# Altium footprint library PcbLib1.PcbLib: 13 footprints
Each footprint in its own frame and in the unit in brackets; x right, y up, seen from the top. Pads: shape width x height; smd on the part's side, far side on the other; paste and mask are expansions set on the pad; w line width, h text height; cw(c..) or ccw(c..) is an arc to the next point about the centre after c.
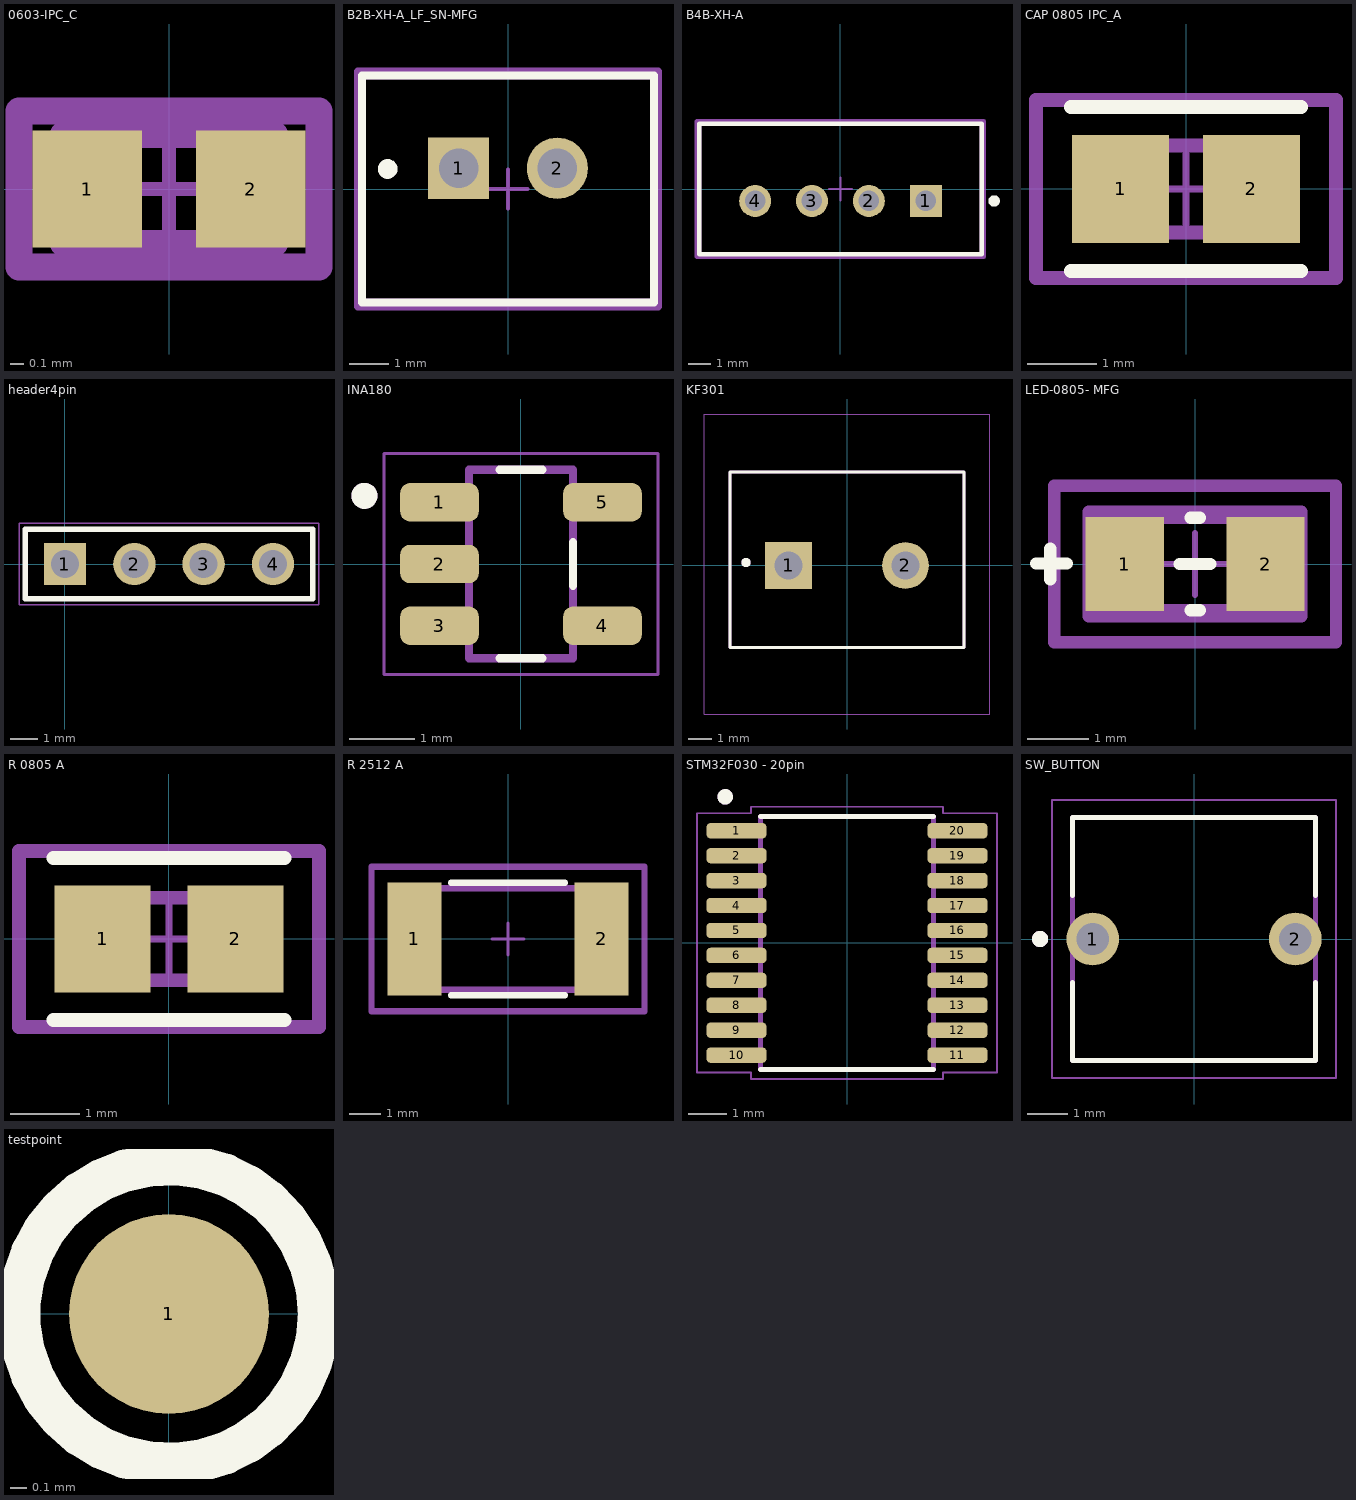
[diagram p0: the footprints below, top view; thin cyan lines are the x and y axes]

## 0603-IPC_C [mm]
pads (2):
  rect 0.806x0.858 smd paste+0 mask+0: 1(-0.601,0) 2(0.601,0)
Top Assembly:
  lines w0.2: -1.104,-0.575 1.104,-0.575 1.104,0.575 -1.104,0.575 -1.104,-0.575
  text ".Designator" at 0,0.188 h1
Top 3D Body:
  lines w0.2: -0.775,-0.4 0.775,-0.4 0.775,0.4 -0.775,0.4 -0.775,-0.4
Top Courtyard:
  lines w0.2: -1.104,-0.575 1.104,-0.575 1.104,0.575 -1.104,0.575 -1.104,-0.575
Top Component Center:
  lines w0.1: -0.5,0 0.5,0 ; 0,-0.5 0,0.5

## B2B-XH-A_LF_SN-MFG [mm]
pads (2):
  rect 1.55x1.55 hole 1 paste-2539.97: 1(-1.25,0.525)
  round 1.55 hole 1 paste-2539.97: 2(1.25,0.525)
Top Overlay:
  circle w0.25: c-3.048,0.508 r0.125
  lines w0.2: -3.7,-2.875 3.7,-2.875 3.7,2.875 -3.7,2.875 -3.7,-2.875
Top Assembly:
  lines w0.2: -3.8,-2.975 3.8,-2.975 3.8,2.975 -3.8,2.975 -3.8,-2.975
  text ".Designator" at 0,0.188 h1
Top 3D Body:
  lines w0.2: -3.7,-2.875 3.7,-2.875 3.7,2.875 -3.7,2.875 -3.7,-2.875
Top Courtyard:
  lines w0.2: -3.8,-2.975 3.8,-2.975 3.8,2.975 -3.8,2.975 -3.8,-2.975
Top Component Center:
  lines w0.1: -0.5,0 0.5,0 ; 0,-0.5 0,0.5
3D body "Conn_JST_B2B-XH-A_LF_SN_eec.STEP": height 0.25, standoff 0, extent -3.8,-2.975 3.8,2.975

## B4B-XH-A [mm]
pads (4):
  rect 1.4x1.4 hole 0.9 paste-2539.97 mask+0: 1(3.75,-0.525)
  round 1.4 hole 0.9 paste-2539.97 mask+0: 2(1.25,-0.525) 3(-1.25,-0.525) 4(-3.75,-0.525)
Top Overlay:
  circle w0.25: c6.75,-0.525 r0.125
  lines w0.2: -6.2,-2.875 6.2,-2.875 6.2,2.875 -6.2,2.875 -6.2,-2.875
Top Assembly:
  lines w0.2: -6.3,-2.975 6.3,-2.975 6.3,2.975 -6.3,2.975 -6.3,-2.975
  text ".Designator" at 0,0.188 h1
Top 3D Body:
  lines w0.2: -6.2,-2.875 6.2,-2.875 6.2,2.875 -6.2,2.875 -6.2,-2.875
Top Courtyard:
  lines w0.2: -6.3,-2.975 6.3,-2.975 6.3,2.975 -6.3,2.975 -6.3,-2.975
Top Component Center:
  lines w0.1: -0.5,0 0.5,0 ; 0,-0.5 0,0.5
3D body "Conn_JST_B4B-XH-A_LF_SN_eec.STEP": height 0.25, standoff 0, extent -6.3,-2.975 6.3,2.975

## CAP 0805 IPC_A [mil] "FP-GRM21A-0_2-IPC_A"
pads (2):
  rect 55x61.27 smd paste+0 mask+0: 1(-37,0) 2(37,0)
Top Overlay:
  lines w7.87: -65.08,-46.38 65.08,-46.38 ; -65.08,46.38 65.08,46.38
Top Assembly:
  lines w7.87: -84.77,-50.32 -84.77,50.32 84.77,50.32 84.77,-50.32 -84.77,-50.32
  text ".Designator" at 0,7.42 h39.37
Top 3D Body:
  lines w7.87: -39.37,-24.61 -39.37,24.61 39.37,24.61 39.37,-24.61 -39.37,-24.61
Top Courtyard:
  lines w7.87: -84.77,-50.32 -84.77,50.32 84.77,50.32 84.77,-50.32 -84.77,-50.32
Top Component Center:
  lines w3.94: -19.68,0 19.68,0 ; 0,-19.68 0,19.68
3D body "Cap_Murata_GRM21A5C2E390JW01D_eec.STEP": height 10, standoff 0, extent -84.77,-50.32 84.77,50.32

## header4pin [mm] ".025 SQ Post Terminal Strip Assembly, 1x4 Pins, Vertical, 2.54mm Pitch, Male"
height 8.58
pads (4):
  rect 1.55x1.55 hole 1.02: 1(0,0)
  round 1.55 hole 1.02: 2(2.54,0) 3(5.08,0) 4(7.62,0)
Top Overlay:
  lines w0.2: -1.46,-1.27 -1.46,1.27 9.08,1.27 9.08,-1.27 -1.46,-1.27
Top 3D Body:
  lines w0.1: -1.46,-1.27 -1.46,1.27 9.08,1.27 9.08,-1.27 -1.46,-1.27
Top Courtyard:
  lines w0.05: -1.685,-1.495 -1.685,1.495 9.305,1.495 9.305,-1.495 -1.685,-1.495
3D body "TSW-104-08-X-S.step": height 8.38, standoff -5.08, extent -1.27,-1.27 8.89,1.27

## INA180 [mm]
pads (5):
  rrect50% 1.21x0.59 smd: 1(-1.255,0.95) 2(-1.255,0) 3(-1.255,-0.95) 4(1.255,-0.95) 5(1.255,0.95)
Top Overlay:
  circle w0.2: c-2.41,1.05 r0.1
  lines w0.127: -0.33,-1.45 0.33,-1.45 ; -0.33,1.45 0.33,1.45 ; 0.8,-0.335 0.8,0.335
Top 3D Body:
  circle w0.2: c-2.41,1.05 r0.1
  lines w0.127: -0.8,-1.45 -0.8,1.45 0.8,1.45 0.8,-1.45 -0.8,-1.45
Top Courtyard:
  lines w0.05: -2.11,-1.7 2.11,-1.7 2.11,1.7 -2.11,1.7 -2.11,-1.7
3D body "step_temp.STEP": height 1.45, standoff 0, extent -1.4,-1.45 1.4,1.45

## KF301 [mm]
height 10
pads (2):
  rect 2x2 hole 1.2: 1(-2.5,0)
  round 2 hole 1.2: 2(2.5,0)
Top Overlay:
  circle w0.2: c-4.318,0.127 r0.1
  lines w0.127: -5,-3.5 -5,4 5,4 5,-3.5 -5,-3.5
Top 3D Body:
  circle w0.2: c-4.318,0.127 r0.1
  lines w0.127: -5,-3.5 5,-3.5 5,4 -5,4 -5,-3.5
Top Courtyard:
  lines w0.05: -6.096,-6.35 -6.096,6.477 6.096,6.477 6.096,-6.35 -6.096,-6.35
3D body "step_temp.STEP": height 10, standoff -4.5, extent -5.6,-3.242 5,4.258

## LED-0805- MFG [mil]
pads (2):
  rect 50x60 smd paste+0 mask+0: 1(-45,0) 2(45,0)
Top Overlay:
  lines w7.87: -101.63,0.34 -81.94,0.34 ; -92.52,-9.84 -92.52,9.84 ; -10,0 9.69,0 ; -2.95,-29.5 2.95,-29.5 ; -2.95,29.5 2.95,29.5
Top Assembly:
  lines w7.87: -67.94,-33.44 67.94,-33.44 67.94,33.44 -67.94,33.44 -67.94,-33.44
  text ".Designator" at 0,0.01 h39.37
Top 3D Body:
  lines w7.87: -44.5,-29.5 -44.5,29.5 44.5,29.5 44.5,-29.5 -44.5,-29.5
Top Courtyard:
  lines w7.87: -90,-50 90,-50 90,50 -90,50 -90,-50
Top Component Center:
  lines w3.94: -19.68,0 19.68,0 ; 0,-19.68 0,19.68
3D body "Diode_Bivar_SM0805UBWC_eec.STEP": height 10, standoff 0, extent -67.94,-33.44 67.94,33.44

## R 0805 A [mil] "FP-HCJ0805-IPC_A"
pads (2):
  rect 55x61.22 smd paste+0 mask+0: 1(-38,0) 2(38,0)
Top Overlay:
  lines w7.87: -66.04,-46.36 66.04,-46.36 ; -66.04,46.36 66.04,46.36
Top Assembly:
  lines w7.87: -85.73,-50.29 85.73,-50.29 85.73,50.29 -85.73,50.29 -85.73,-50.29
  text ".Designator" at 50,2.42 h39.37
Top 3D Body:
  lines w7.87: -39.37,-23.62 39.37,-23.62 39.37,23.62 -39.37,23.62 -39.37,-23.62
Top Courtyard:
  lines w7.87: -85.73,-50.29 85.73,-50.29 85.73,50.29 -85.73,50.29 -85.73,-50.29
Top Component Center:
  lines w3.94: -19.68,0 19.68,0 ; 0,-19.68 0,19.68
3D body "Res_Stackpole_HCJ0805ZT0R00_eec.STEP": height 10, standoff 0, extent -85.73,-50.29 85.73,50.29

## R 2512 A [mm] "FP-RMCF2512-IPC_A"
pads (2):
  rect 1.704x3.555 smd paste+0 mask+0: 1(-2.951,0) 2(2.951,0)
Top Overlay:
  lines w0.2: -1.799,-1.777 1.799,-1.777 ; -1.799,1.777 1.799,1.777
Top Assembly:
  lines w0.2: -4.303,-2.277 -4.303,2.277 4.303,2.277 4.303,-2.277 -4.303,-2.277
  text ".Designator" at 0,0.188 h1
Top 3D Body:
  lines w0.2: -3.15,-1.6 -3.15,1.6 3.15,1.6 3.15,-1.6 -3.15,-1.6
Top Courtyard:
  lines w0.2: -4.303,-2.277 -4.303,2.277 4.303,2.277 4.303,-2.277 -4.303,-2.277
Top Component Center:
  lines w0.1: -0.5,0 0.5,0 ; 0,-0.5 0,0.5
3D body "Res_Stackpole_RMCF2512FT10M0_eec.STEP": height 0.25, standoff 0, extent -4.303,-2.277 4.303,2.277

## STM32F030 - 20pin [mm]
pads (20):
  rrect50% 1.56x0.4 smd mask+0.051: 1(-2.88,2.925) 2(-2.88,2.275) 3(-2.88,1.625) 4(-2.88,0.975) 5(-2.88,0.325) 6(-2.88,-0.325) 7(-2.88,-0.975) 8(-2.88,-1.625) 9(-2.88,-2.275) 10(-2.88,-2.925) 11(2.88,-2.925) 12(2.88,-2.275) 13(2.88,-1.625) 14(2.88,-0.975) 15(2.88,-0.325) 16(2.88,0.325) 17(2.88,0.975) 18(2.88,1.625) 19(2.88,2.275) 20(2.88,2.925)
Top Overlay:
  circle w0.2: c-3.175,3.81 r0.1
  lines w0.127: -2.25,-3.3 2.25,-3.3 ; -2.25,3.3 2.25,3.3
Top 3D Body:
  circle w0.2: c-3.175,3.81 r0.1
  lines w0.127: -2.25,-3.3 2.25,-3.3 2.25,3.3 -2.25,3.3 -2.25,-3.3
Top Courtyard:
  lines w0.05: -3.91,-3.38 -2.5,-3.38 -2.5,-3.55 2.5,-3.55 2.5,-3.38 3.91,-3.38 3.91,3.38 2.5,3.38 2.5,3.55 -2.5,3.55 -2.5,3.38 -3.91,3.38 -3.91,-3.38
3D body "step_temp.STEP": height 1.18, standoff -0.02, extent -3.2,-3.25 3.2,3.25

## SW_BUTTON [mm]
height 9.5
pads (2):
  round 1.3 / inner round 1.508 / far side round 1.3 hole 0.8 paste-2539.97: 1(-2.5,0) 2(2.5,0)
Top Overlay:
  circle w0.2: c-3.8,0 r0.1
  lines w0.127: -3,-1.075 -3,-3 3,-3 3,-1.075 ; -3,1.075 -3,3 3,3 3,1.075
Top 3D Body:
  circle w0.2: c-3.8,0 r0.1
  lines w0.127: -3,-3 3,-3 3,3 -3,3 -3,-3
Top Courtyard:
  lines w0.05: -3.504,-3.429 3.504,-3.429 3.504,3.429 -3.504,3.429 -3.504,-3.429
3D body "step_temp.STEP": height 5.1, standoff -4, extent -3,-3 3,3

## testpoint [mm]
height 0.03
pads (1):
  round 1.2 smd: 1(0,0)
Top Overlay:
  circle w0.254: c0,0 r0.9